# Altium schematic symbol library ic-power-supply.SchLib: 32 symbols
Pins are listed as number, name and electrical type; pins without a type are passive.

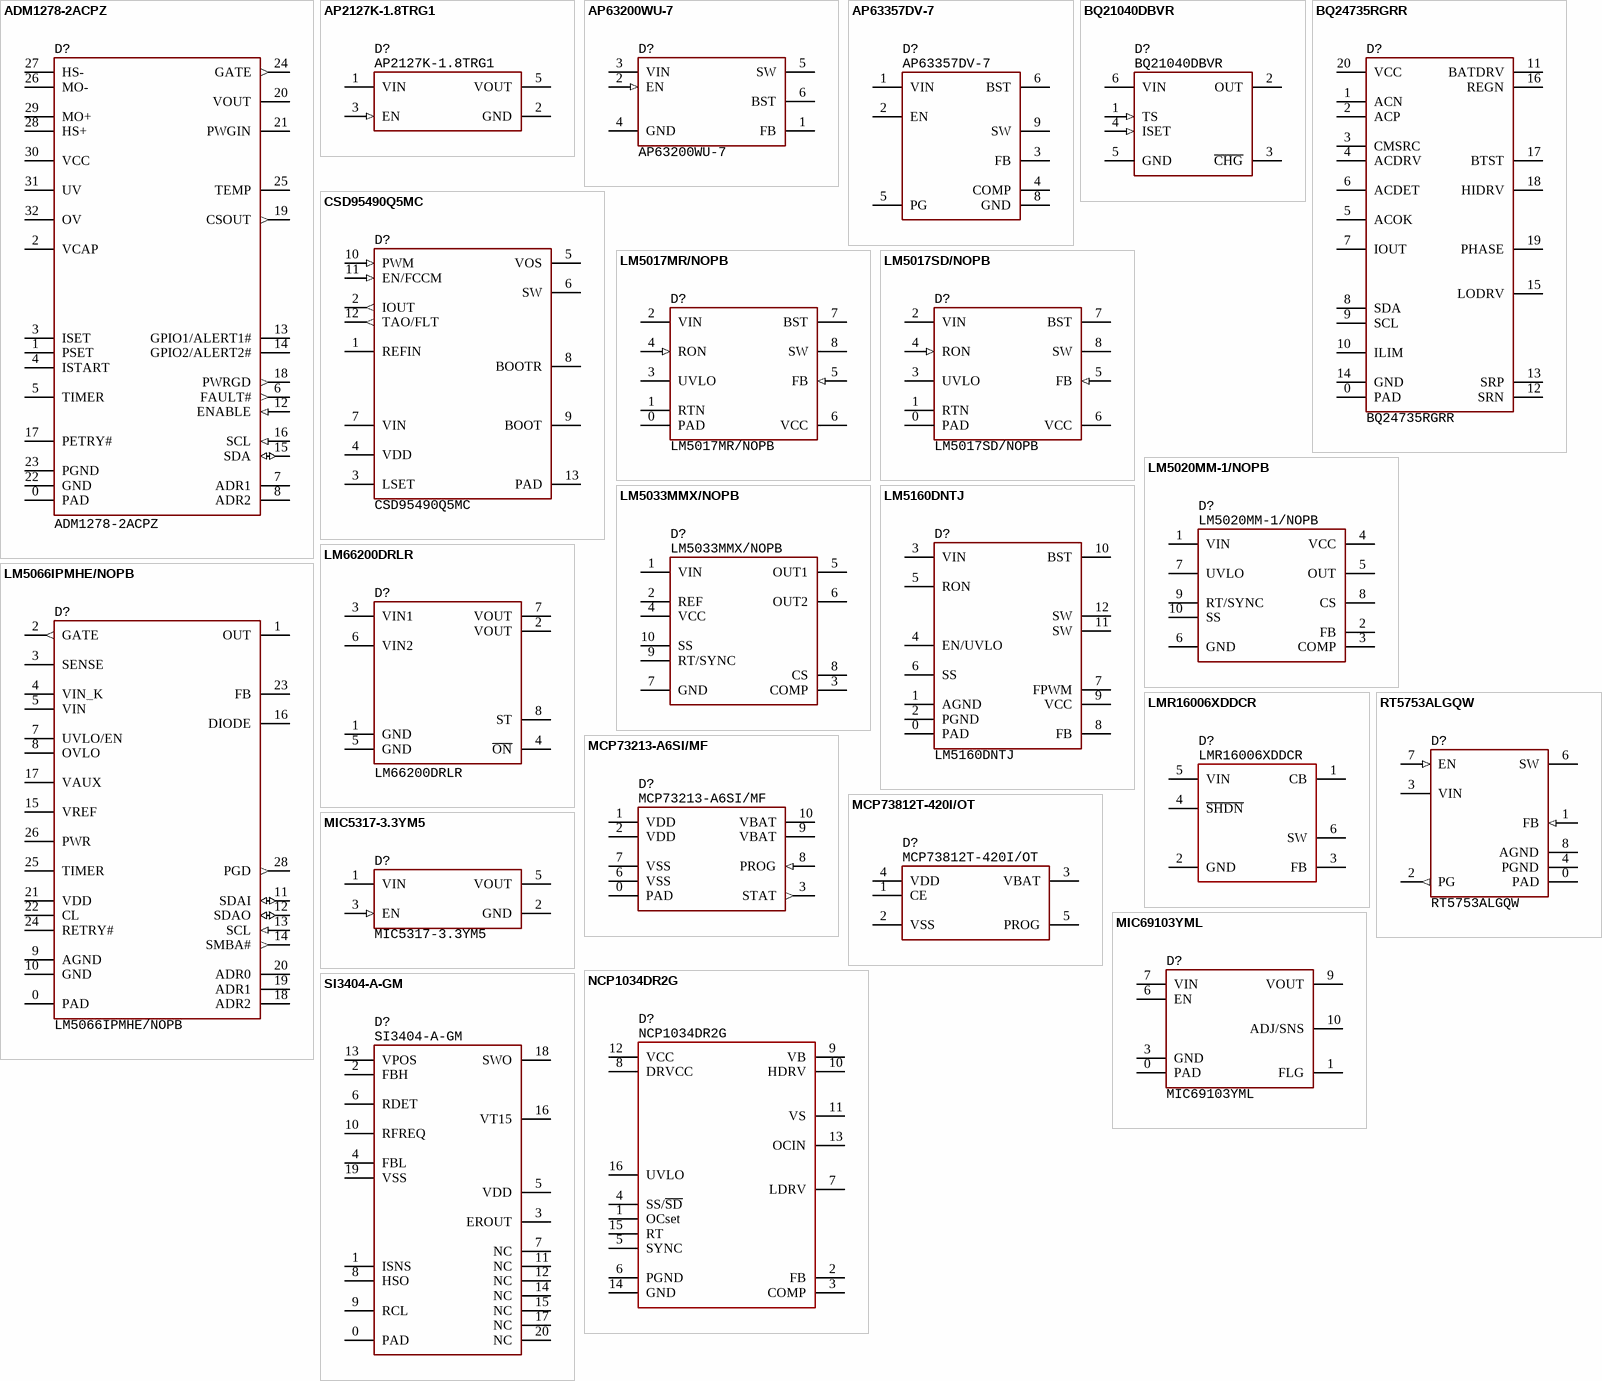
[diagram p0: symbols ADM1278-2ACPZ to SI3404-A-GM]

## ADM1278-2ACPZ
designator D?
Hot Swap Controller, supply 4.5...20V, QFN-32, -40...+85°C; Manufacturer: Analog Devices; HelpURL: https://ru.mouser.com/ProductDetail/Analog-Devices/ADM1278-2ACPZ?qs=sGAEpiMZZMukxKgYRb08uFYaSLh6wvW1ArWLwzLx0oQ%3D; Package: QFN-32 (5x5); Manufacturer Part Number: ADM1278-2ACPZ; Component Type: Power Supply; PartNumber: ADM1278-2ACPZ
footprint 32-QFN (5x5, pitch 0.5) (5x5 mm, pitch 0.5 mm, power pad)
pins: 0 PAD, 1 PSET, 2 VCAP, 3 ISET, 4 ISTART, 5 TIMER, 6 FAULT# (out), 7 ADR1, 8 ADR2, 12 ENABLE (in), 13 GPIO1/ALERT1#, 14 GPIO2/ALERT2#, 15 SDA (io), 16 SCL (in), 17 PETRY#, 18 PWRGD (out), 19 CSOUT (out), 20 VOUT, 21 PWGIN, 22 GND, 23 PGND, 24 GATE (out), 25 TEMP, 26 MO-, 27 HS-, 28 HS+, 29 MO+, 30 VCC, 31 UV, 32 OV

## AP2127K-1.8TRG1
designator D?
LDO, output 1.8V, input 2.5...6V, 300 mA, -40...+85°C; Manufacture: Diodes; HelpURL: https://eu.mouser.com/ProductDetail/Diodes-Incorporated/AP2127K-1.8TRG1?qs=x6A8l6qLYDDmU4WXw4%252BBlA%3D%3D; Package: SOT23-5; PartNumber: AP2127K-1.8TRG1
footprint SOT23-5 (pitch 0.95 mm)
pins: 1 VIN, 2 GND, 3 EN (in), 5 VOUT

## AP63200WU-7
designator D?  PartNumber: AP63200WU-7
Buck sync, 2A, 500kHz, input 3.8...32V, SOT23-6, -40...+85°C; Manufacturer: Diodes; HelpURL: https://www.digikey.com/en/products/detail/diodes-incorporated/AP63200WU-7/9858423; Package: SOT23-6
footprint SOT23-6 (pitch 0.95 mm)
pins: 1 FB, 2 EN (in), 3 VIN, 4 GND, 5 SW, 6 BST

## AP63357DV-7
designator D?  PartNumber: AP63357DV-7
Buck sync, 3.5A, 450kHz, input 3.8...32V, DFN3020, -40...+85°C; Manufacturer: Diodes; HelpURL: https://eu.mouser.com/ProductDetail/Diodes-Incorporated/AP63357DV-7?qs=bZr6mbWTK5nW8IurdDD0lw%3D%3D; Package: DFN3020
footprint IC: AP63357DV-7
pins: 1 VIN, 2 EN, 3 FB, 4 COMP, 5 PG, 6 BST, 8 GND, 9 SW

## BQ21040DBVR
designator D?
Charger 1S, 800 mA, supply 3.5...28V, SOT23-6, 0...+125°C; Manufacture: Texas Instruments; HelpURL: https://eu.mouser.com/ProductDetail/Texas-Instruments/BQ21040DBVT?qs=cttFivMKqWxXmJjs8S2Pcw%3D%3D; Package: SOT23-6; PartNumber: BQ21040DBVR
footprint SOT23-6 (pitch 0.95 mm)
pins: 1 TS (in), 2 OUT, 3 ~{CHG}, 4 ISET (in), 5 GND, 6 VIN

## BQ24735RGRR
designator D?
Charger 1...4S, 8A, supply 4.5...24V, QFN-20, -40...+85°C; Manufacture: Texas Instruments; HelpURL: https://eu.mouser.com/ProductDetail/Texas-Instruments/BQ24735RGRR?qs=wqKrPCMdR%252BYkM3Giyn55uQ%3D%3D; Package: QFN-20; PartNumber: BQ24735RGRR
footprint 20-QFN (3.5x3.5) (20-VQFN, pitch 0.5 mm)
pins: 0 PAD, 1 ACN, 2 ACP, 3 CMSRC, 4 ACDRV, 5 ACOK, 6 ACDET, 7 IOUT, 8 SDA, 9 SCL, 10 ILIM, 11 BATDRV, 12 SRN, 13 SRP, 14 GND, 15 LODRV, 16 REGN, 17 BTST, 18 HIDRV, 19 PHASE, 20 VCC

## CSD95490Q5MC
designator D?
DrMOS, input 3...16V, supply 4.75...5.25V, 75A, up to 1.25 MHz, QFN 5x6, -40...+125°C; Manufacturer: Texas Instruments; HelpURL: https://ru.mouser.com/ProductDetail/Texas-Instruments/CSD95490Q5MC?qs=YCa%2FAAYMW024gRSHTXOplA%3D%3D; Package: QFN (5x6); Manufacturer Part Number: CSD95490Q5MC; Component Type: Power Supply; PartNumber: CSD95490Q5MC
footprint IC: CSD95490Q5MC
pins: 1 REFIN, 2 IOUT (out), 3 LSET, 4 VDD, 5 VOS, 6 SW, 7 VIN, 8 BOOTR, 9 BOOT, 10 PWM (in), 11 EN/FCCM (in), 12 TAO/FLT (out), 13 PAD

## LM5017MR/NOPB
designator D?
Buck sync, 0.6A, 1MHz, supply 7.5...100V, SOIC-8, -40...+125°C; Manufacturer: Texas Instruments; Package: SOIC-8; HelpURL: https://mouser.com/ProductDetail/Texas-Instruments/LM5017MR-NOPB?qs=vobMBmnAsJGX1u%252BMaOP%2FUQ%3D%3D; PartNumber: LM5017MR/NOPB
footprint 8-SOIC-PAD (pitch 1.27 mm, power pad)
pins: 0 PAD, 1 RTN, 2 VIN, 3 UVLO, 4 RON (in), 5 FB (in), 6 VCC, 7 BST, 8 SW

## LM5017SD/NOPB
designator D?
Buck sync, 0.6A, 1MHz, supply 7.5...100V, WSON-8, -40...+125°C; Manufacturer: Texas Instruments; Package: WSON-8; HelpURL: https://eu.mouser.com/ProductDetail/Texas-Instruments/LM5017SD-NOPB?qs=iiglMaU8SAdQJx7ZXr%252BBlQ%3D%3D; PartNumber: LM5017SD/NOPB
footprint 8-WSON (4x4) (4x4 mm, pitch 0.8 mm, power pad)
pins: 0 PAD, 1 RTN, 2 VIN, 3 UVLO, 4 RON (in), 5 FB (in), 6 VCC, 7 BST, 8 SW

## LM5020MM-1/NOPB
designator D?
PWM controller, 100...1000 kHz, supply 13...100V, MSOP-10, -40...+125°C; Manufacture: Texas Instruments; HelpURL: https://eu.mouser.com/ProductDetail/Texas-Instruments/LM5020MM-1-NOPB?qs=QbsRYf82W3FgfyXdY949MQ%3D%3D; Package: MSOP-10; PartNumber: LM5020MM-1/NOPB
footprint 10-MSOP (3x3 mm, pitch 0.5 mm)
pins: 1 VIN, 2 FB, 3 COMP, 4 VCC, 5 OUT, 6 GND, 7 UVLO, 8 CS, 9 RT/SYNC, 10 SS

## LM5033MMX/NOPB
designator D?
PWM controller, PP, 100...1000 kHz, supply 15...100V, MSOP-10, -40...+125°C; Manufacture: Texas Instruments; HelpURL: https://eu.mouser.com/ProductDetail/Texas-Instruments/LM5033MMX-NOPB?qs=QbsRYf82W3G2iPf%2FGkoiqg%3D%3D; Package: MSOP-10; PartNumber: LM5033MMX/NOPB
footprint 10-MSOP (3x3 mm, pitch 0.5 mm)
pins: 1 VIN, 2 REF, 3 COMP, 4 VCC, 5 OUT1, 6 OUT2, 7 GND, 8 CS, 9 RT/SYNC, 10 SS

## LM5066IPMHE/NOPB
designator D?
Hot Swap Controller, supply 10...80V, HTSSOP-28, -40...+125°C; Manufacturer: Texas Instruments; HelpURL: https://ru.mouser.com/ProductDetail/Texas-Instruments/LM5066IPMHE-NOPB?qs=sGAEpiMZZMtXHE36kCvv371jxTqr%252BhNLXiSNSMVR%252B%252BM%3D; Package: HTSSOP-28; PartNumber: LM5066IPMHE/NOPB
footprint 28-TSSOP-PAD (pitch 0.65 mm)
pins: 0 PAD, 1 OUT, 2 GATE (out), 3 SENSE, 4 VIN_K, 5 VIN, 7 UVLO/EN, 8 OVLO, 9 AGND, 10 GND, 11 SDAI (io), 12 SDAO (io), 13 SCL (in), 14 SMBA# (out), 15 VREF, 16 DIODE, 17 VAUX, 18 ADR2, 19 ADR1, 20 ADR0, 21 VDD, 22 CL, 23 FB, 24 RETRY#, 25 TIMER, 26 PWR, 28 PGD (out)

## LM5160DNTJ
designator D?
Buck sync, 2A, up to 1MHz, input 4.5...65V, output 2...60V, WSON-12, -40...+85°C; Manufacturer: Texas Instruments; HelpURL: https://ru.mouser.com/ProductDetail/Texas-Instruments/LM5160DNTJ?qs=%2Fha2pyFadugZBX6lY4tdT%2Fc4P82vpJOjetnepN61xI7kjXMtTqR7gA%3D%3D; Package: 12-WSON (4x4); Manufacturer Part Number: LM5160DNTJ; Component Type: Power Supply; PartNumber: LM5160DNTJ
footprint 12-WSON (4x4x0.5)
pins: 0 PAD, 1 AGND, 2 PGND, 3 VIN, 4 EN/UVLO, 5 RON, 6 SS, 7 FPWM, 8 FB, 9 VCC, 10 BST, 11 SW, 12 SW

## LM66200DRLR
designator D?
Dual OR controller, 2.5A, supply 1.6...5.5V, SOT-5X3, -40...+125°C; Manufacture: Texas Instruments; HelpURL: https://eu.mouser.com/ProductDetail/Texas-Instruments/LM66200DRLR?qs=Rp5uXu7WBW90hnpZAkIOdQ%3D%3D; Package: SOT-5X3; PartNumber: LM66200DRLR
footprint SOT-583 (pitch 0.95 mm)
pins: 1 GND, 2 VOUT, 3 VIN1, 4 ~{ON}, 5 GND, 6 VIN2, 7 VOUT, 8 ST

## LMR16006XDDCR
designator D?
Buck sync, 0.6A, 700kHz, supply 4...60V, SOT23-6, -40...+125°C; Manufacturer: Texas Instruments; Package: SOT23-6; HelpURL: https://eu.mouser.com/ProductDetail/Texas-Instruments/LMR16006XDDCR?qs=1CfNGUMoiQ95NOKd0bCzxg%3D%3D; PartNumber: LMR16006XDDCR
footprint SOT23-6 (pitch 0.95 mm)
pins: 1 CB, 2 GND, 3 FB, 4 ~{SHDN}, 5 VIN, 6 SW

## MCP73213-A6SI/MF
designator D?
Charger 2S, 1.1A, supply 4.2...13V, DFN-10, -40...+85°C; Manufacture: Microchip; HelpURL: https://eu.mouser.com/ProductDetail/Microchip-Technology-Atmel/MCP73213-A6SI-MF?qs=E6wAi2XWqcMh2Cc8M6tXmg%3D%3D; Package: DFN-10; PartNumber: MCP73213-A6SI/MF
footprint 10-DFN (3x3) (3x3 mm, pitch 0.5 mm, power pad)
pins: 0 PAD, 1 VDD, 2 VDD, 3 STAT (out), 6 VSS, 7 VSS, 8 PROG (in), 9 VBAT, 10 VBAT

## MCP73812T-420I/OT
designator D?
Charger 1S, 500 mA, supply 3.75...6V, SOT23-5, -40...+85°C; Manufacture: Microchip; HelpURL: https://eu.mouser.com/ProductDetail/Microchip-Technology/MCP73812T-420I-OT?qs=tZia49mH7IIojPkz8UZ7Mg%3D%3D; Package: SOT23-5; PartNumber: MCP73812T-420I/OT
footprint SOT23-5 (pitch 0.95 mm)
pins: 1 CE, 2 VSS, 3 VBAT, 4 VDD, 5 PROG

## MIC5317-3.3YM5
designator D?
LDO, output 3.3V, input 2.5...6V, 150 mA, -40...+85°C; Manufacture: Diodes; HelpURL: https://eu.mouser.com/ProductDetail/Microchip-Technology-Atmel/MIC5317-3.3YM5-TR?qs=U6T8BxXiZAUR0BSg3XdMLw%3D%3D; Package: SOT23-5; PartNumber: MIC5317-3.3YM5
footprint SOT23-5 (pitch 0.95 mm)
pins: 1 VIN, 2 GND, 3 EN (in), 5 VOUT

## MIC69103YML
designator D?
LDO, 1A, dropout 0.5V, supply 1.65...5.5V, DFN-8, -40...+125°C; Manufacturer: Microchip; Package: DFN-8; HelpURL: https://ru.mouser.com/ProductDetail/Microchip-Technology-Micrel/MIC69103YML-TR?qs=%2Fha2pyFaduhJqJEFPVlvBS%2FhF%2FJYeuaqvIMbBlSjNrO%2Fvsp9WrIrTA%3D%3D; PartNumber: MIC69103YML
footprint 10-DFN (3x3) (3x3 mm, pitch 0.5 mm, power pad)
pins: 0 PAD, 1 FLG, 3 GND, 6 EN, 7 VIN, 9 VOUT, 10 ADJ/SNS

## NCP1034DR2G
designator D?
Buck controller, 2A, 25...500kHz, supply 10 ...100V, WSON-8, -40...+125°C; Manufacturer: ON Semiconductor; Package: SOIC-16; HelpURL: https://eu.mouser.com/ProductDetail/onsemi/NCP1034DR2G?qs=N5dOQkml4H%252Begd%2FAc4qEAQ%3D%3D; PartNumber: NCP1034DR2G
footprint 16-SO (pitch 1.27 mm)
pins: 1 OCset, 2 FB, 3 COMP, 4 SS/~{SD}, 5 SYNC, 6 PGND, 7 LDRV, 8 DRVCC, 9 VB, 10 HDRV, 11 VS, 12 VCC, 13 OCIN, 14 GND, 15 RT, 16 UVLO

## RT5753ALGQW
designator D?
Buck sync, 3A, input 2.5...5.5V, 1.2 MHz, output 0.6V, WDFN-8L, -40...+125°C; Manufacturer: Richtek; HelpURL: https://www.digikey.com/en/products/detail/richtek-usa-inc/RT5753ALGQW/13180191; Package: DFN-8; Manufacturer Part Number: RT5753ALGQW; Component Type: Power Supply; PartNumber: RT5753ALGQW
footprint 8-DFN (2x2, 0.5 mm)
pins: 0 PAD, 1 FB (in), 2 PG (out), 3 VIN, 4 PGND, 6 SW, 7 EN (in), 8 AGND

## SI3404-A-GM
designator D?
PoE, supply 1.5...57V, 600 mA, 470 kHz, QFN-20, -40...+125°C; Manufacture: Skyworks; HelpURL: https://eu.mouser.com/ProductDetail/Skyworks-Solutions-Inc/SI3404-A-GM?qs=j%252B1pi9TdxUYmV0ahpB5HJw%3D%3D; Package: QFN-20; PartNumber: SI3404-A-GM
footprint 20-QFN (4x4, pitch 0.5) (4x4 mm, pitch 0.5 mm, power pad)
pins: 0 PAD, 1 ISNS, 2 FBH, 3 EROUT, 4 FBL, 5 VDD, 6 RDET, 7 NC, 8 HSO, 9 RCL, 10 RFREQ, 11 NC, 12 NC, 13 VPOS, 14 NC, 15 NC, 16 VT15, 17 NC, 18 SWO, 19 VSS, 20 NC

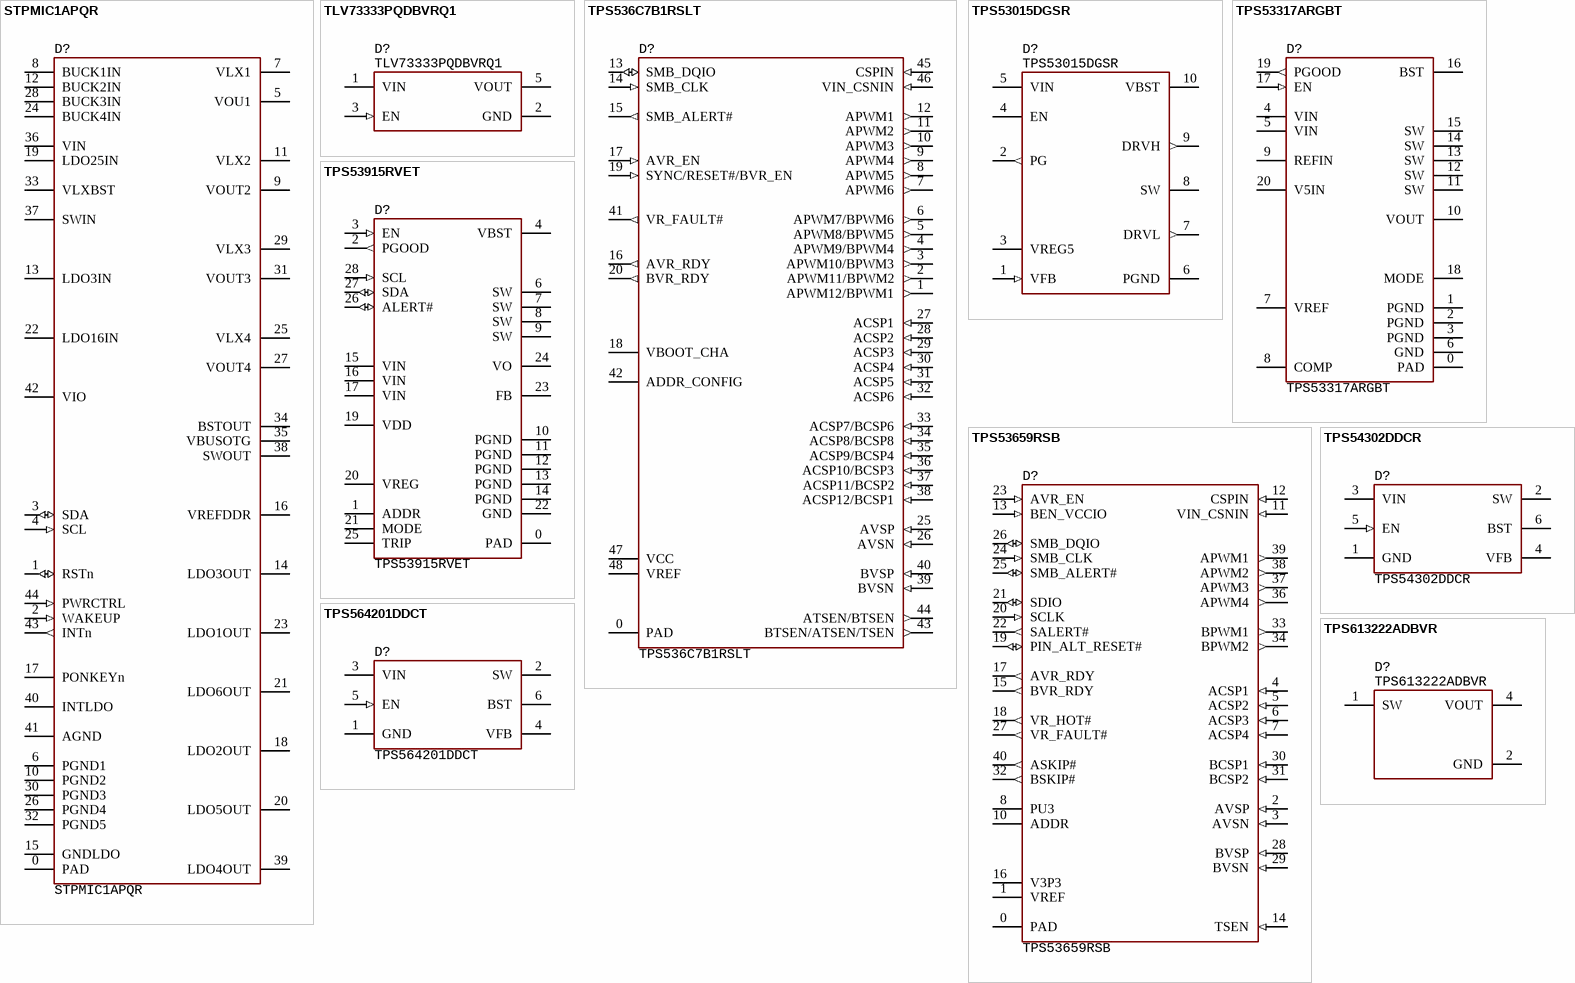
[diagram p1: symbols STPMIC1APQR to TPS613222ADBVR]

## STPMIC1APQR
designator D?  PartNumber: STPMIC1APQR
PMIC, 4 DC/DC + 7 LDO, input 2.8...5.5V, 44-WFQFN, -40...+105°C; Manufacturer: STMicroelectronics; HelpURL: https://www.digikey.com/en/products/detail/stmicroelectronics/STPMIC1APQR/10409724?s=N4IgTCBcDaIMoBUAKBZAkgYQIwEEQF0BfIA; Package: 44-WFQFN (5x6); ComponentType: Power management STM32MP1
footprint 44-WFQFN (5x6, pitch 0.4) (44-QFN, 5x6mm, pitch 0,40mm)
pins: 0 PAD, 1 RSTn (io), 2 WAKEUP (in), 3 SDA (io), 4 SCL (in), 5 VOU1, 6 PGND1, 7 VLX1, 8 BUCK1IN, 9 VOUT2, 10 PGND2, 11 VLX2, 12 BUCK2IN, 13 LDO3IN, 14 LDO3OUT, 15 GNDLDO, 16 VREFDDR, 17 PONKEYn, 18 LDO2OUT, 19 LDO25IN, 20 LDO5OUT, 21 LDO6OUT, 22 LDO16IN, 23 LDO1OUT, 24 BUCK4IN, 25 VLX4, 26 PGND4, 27 VOUT4, 28 BUCK3IN, 29 VLX3, 30 PGND3, 31 VOUT3, 32 PGND5, 33 VLXBST, 34 BSTOUT, 35 VBUSOTG, 36 VIN, 37 SWIN, 38 SWOUT, 39 LDO4OUT, 40 INTLDO, 41 AGND, 42 VIO, 43 INTn (out), 44 PWRCTRL (in)

## TLV73333PQDBVRQ1
designator D?
LDO, output 3.3V, input 1.4...5.5V, 300 mA, -40...+85°C; Manufacturer: Texas Instruments; HelpURL: https://nl.mouser.com/ProductDetail/Texas-Instruments/TLV73333PQDBVRQ1?qs=9r4v7xj2LnnYANXVL3PB4Q%3D%3D; Package: SOT23-5; PartNumber: TLV73333PQDBVRQ1
footprint SOT23-5 (pitch 0.95 mm)
pins: 1 VIN, 2 GND, 3 EN (in), 5 VOUT

## TPS536C7B1RSLT
designator D?
12 phase PMIC, supply 2.97...3.6V, 0.3...2MHz, QFN-48, -40...+125°C; Manufacturer: Texas Instruments; HelpURL: https://ru.mouser.com/ProductDetail/Texas-Instruments/TPS536C7B1RSLT?qs=sGAEpiMZZMv0NwlthflBi%252BHOpBj0y4gStz%2F36T2fI78%3D; Package: QFN-48; Manufacturer Part Number: TPS536C7B1RSLT; Component Type: Power Supply; PartNumber: TPS536C7B1RSLT
footprint 48-QFN (6x6, pitch 0.4) (6x6 mm, pitch 0.4 mm, power pad)
pins: 0 PAD, 1 APWM12/BPWM1 (out), 2 APWM11/BPWM2 (out), 3 APWM10/BPWM3 (out), 4 APWM9/BPWM4 (out), 5 APWM8/BPWM5 (out), 6 APWM7/BPWM6 (out), 7 APWM6 (out), 8 APWM5 (out), 9 APWM4 (out), 10 APWM3 (out), 11 APWM2 (out), 12 APWM1 (out), 13 SMB_DQIO (io), 14 SMB_CLK (in), 15 SMB_ALERT# (out), 16 AVR_RDY (out), 17 AVR_EN (in), 18 VBOOT_CHA, 19 SYNC/RESET#/BVR_EN (in), 20 BVR_RDY (out), 25 AVSP (in), 26 AVSN (in), 27 ACSP1 (in), 28 ACSP2 (in), 29 ACSP3 (in), 30 ACSP4 (in), 31 ACSP5 (in), 32 ACSP6 (in), 33 ACSP7/BCSP6 (in), 34 ACSP8/BCSP8 (in), 35 ACSP9/BCSP4 (in), 36 ACSP10/BCSP3 (in), 37 ACSP11/BCSP2 (in), 38 ACSP12/BCSP1 (in), 39 BVSN (in), 40 BVSP (in), 41 VR_FAULT# (out), 42 ADDR_CONFIG, 43 BTSEN/ATSEN/TSEN (out), 44 ATSEN/BTSEN (out), 45 CSPIN (in), 46 VIN_CSNIN (in), 47 VCC, 48 VREF

## TPS53015DGSR
designator D?
Buck controller, 25A, 500 kHz, supply 4.5...28V, MSOP-10, -40...+125°C; Manufacture: Texas Instruments; HelpURL: https://eu.mouser.com/ProductDetail/Texas-Instruments/TPS53015DGSR?qs=4whTb%2F0XQMiiTg3KfhN7kw%3D%3D; Package: MSOP-10; PartNumber: TPS53015DGSR
footprint 10-MSOP (3x3 mm, pitch 0.5 mm)
pins: 1 VFB (in), 2 PG (out), 3 VREG5, 4 EN, 5 VIN, 6 PGND, 7 DRVL (out), 8 SW, 9 DRVH (out), 10 VBST

## TPS53317ARGBT
designator D?
DDR VTT buck, 6A, 600...1000kHz, supply 0.9...6V, output 0.45...2V, VQFN-20, -40...+125°C; Manufacturer: Texas Instruments; Package: VQFN-20; HelpURL: https://ru.mouser.com/ProductDetail/Texas-Instruments/TPS53317ARGBT?qs=sGAEpiMZZMsyYdr3R27aV9qV2uH36OyYh567pxyIAO4%3D; Manufacturer Part Number: TPS53317ARGBT; Component Type: Power Supply; PartNumber: TPS53317ARGBT
footprint 20-QFN (4x3.5, pitch 0.5) (20-VQFN, pitch 0.5 mm)
pins: 0 PAD, 1 PGND, 2 PGND, 3 PGND, 4 VIN, 5 VIN, 6 GND, 7 VREF, 8 COMP, 9 REFIN, 10 VOUT, 11 SW, 12 SW, 13 SW, 14 SW, 15 SW, 16 BST, 17 EN (in), 18 MODE, 19 PGOOD (out), 20 V5IN

## TPS53659RSB
designator D?
6 phase PMIC, supply 2.97...3.5V, 0.3...1MHz, QFN-40, -40...+125°C; Manufacturer: Texas Instruments; Manufacturer Part Number: TPS53659RSBT; HelpURL: https://ru.mouser.com/ProductDetail/Texas-Instruments/TPS53659RSBT?qs=0C8XhJW8e4p4dxXZfvp0iQ%3D%3D; Package: QFN-40; Component Type: Power Supply; PartNumber: TPS53659RSB
footprint 40-QFN (5x5) (5x mm, pitch 0.4 mm, power pad)
pins: 0 PAD, 1 VREF, 2 AVSP (in), 3 AVSN (in), 4 ACSP1 (in), 5 ACSP2 (in), 6 ACSP3 (in), 7 ACSP4 (in), 8 PU3, 10 ADDR, 11 VIN_CSNIN (in), 12 CSPIN (in), 13 BEN_VCCIO (in), 14 TSEN (in), 15 BVR_RDY (out), 16 V3P3, 17 AVR_RDY (out), 18 VR_HOT# (out), 19 PIN_ALT_RESET# (io), 20 SCLK (in), 21 SDIO (io), 22 SALERT# (out), 23 AVR_EN (in), 24 SMB_CLK (in), 25 SMB_ALERT# (io), 26 SMB_DQIO (io), 27 VR_FAULT# (out), 28 BVSP (in), 29 BVSN (in), 30 BCSP1 (in), 31 BCSP2 (in), 32 BSKIP# (out), 33 BPWM1 (out), 34 BPWM2 (out), 36 APWM4 (out), 37 APWM3 (out), 38 APWM2 (out), 39 APWM1 (out), 40 ASKIP# (out)

## TPS53915RVET
designator D?
Buck sync, 12A, 1000 kHz, supply 1.5...18V, output 0.6...5.5V, VQFN-28, -40...+85°C; Manufacturer: Texas Instruments; HelpURL: https://ru.mouser.com/ProductDetail/Texas-Instruments/TPS53915RVET?qs=sGAEpiMZZMukxKgYRb08uMRogFkcWXmECqFLEm4ZvjQ%3D; Package: VQFN-28; Manufacturer Part Number: TPS53915RVET; Component Type: Power Supply; PartNumber: TPS53915RVET
footprint 28-QFN (4.5x3.5, pitch 0.4) (pitch 0.95 mm)
pins: 0 PAD, 1 ADDR, 2 PGOOD (out), 3 EN (in), 4 VBST, 6 SW, 7 SW, 8 SW, 9 SW, 10 PGND, 11 PGND, 12 PGND, 13 PGND, 14 PGND, 15 VIN, 16 VIN, 17 VIN, 19 VDD, 20 VREG, 21 MODE, 22 GND, 23 FB, 24 VO, 25 TRIP, 26 ALERT# (io), 27 SDA (io), 28 SCL (in)

## TPS54302DDCR
designator D?
Buck sync, 3A, 400kHz, supply 4.5...28V, SOT-23-6, -40...+85°C; Manufacturer: Texas Instruments; HelpURL: https://eu.mouser.com/ProductDetail/Texas-Instruments/TPS54302DDCR?qs=zEmsApcVOkUXM7UP0GSO2g%3D%3D; Package: SOT-23-6; PartNumber: TPS54302DDCR
footprint SOT23-6 (pitch 0.95 mm)
pins: 1 GND, 2 SW, 3 VIN, 4 VFB, 5 EN (in), 6 BST

## TPS564201DDCT
designator D?
Buck sync, 4A, 560kHz, supply 4.5...17V, SOT-23-6, -40...+85°C; Manufacturer: Texas Instruments; HelpURL: https://www.digikey.com/en/products/detail/texas-instruments/TPS564201DDCT/6036275?s=N4IgTCBcDaICoAUDKBWAbAFjABgIwBF8BhOEAXQF8g; Package: SOT-23-6; PartNumber: TPS564201DDCT
footprint SOT23-6 (pitch 0.95 mm)
pins: 1 GND, 2 SW, 3 VIN, 4 VFB, 5 EN (in), 6 BST

## TPS613222ADBVR
designator D?
Boost, 1.8A, input 0.9...5.5V, output 1.8...5.5V, SOT23-5, 40...+85°C; Manufacture: Texas Instruments; HelpURL: https://eu.mouser.com/ProductDetail/Texas-Instruments/TPS613222ADBVR?qs=W0yvOO0ixfE4d69WXsn8NQ%3D%3D; Package: SOT23-5; PartNumber: TPS613222ADBVR
footprint SOT23-5 (pitch 0.95 mm)
pins: 1 SW, 2 GND, 4 VOUT